# Altium schematic symbol library hhm1595a1.SchLib: 1 symbol
Pins are listed as number, name and electrical type; pins without a type are passive.

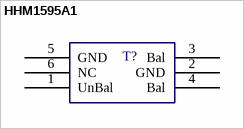
[diagram p0: symbol HHM1595A1]

## HHM1595A1
designator T?  (value not drawn)
HHM1595A1 3000MHz - 8000MHz 0805; Category Letter: T; Category: Filter; Part Number: HHM1595A1
footprint HHM1595A1
pins: 1 UnBal "Unbalanced Port", 2 GND, 3 Bal "Balanced Port", 4 Bal "Balanced Port", 5 GND, 6 NC